# Altium integrated library Input_Connector_2pin.IntLib: 1 symbol
Pins are listed as number, name and electrical type; pins without a type are passive.

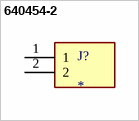
[diagram p0: symbol 640454-2]

## 640454-2
designator J?
02P MTA100 HDR ASSY SQ STR POL; MP: 640454-2; MF: TE Connectivity; Price: None; Purchase-URL: https://pricing.snapeda.com/search/part/640454-2/?ref=eda; Package: None; Check_prices: https://www.snapeda.com/parts/640454-2/TE+Connectivity+AMP+Connectors/view-part/?ref=eda; Value: *; Availability: In Stock; EU_RoHS_Compliance: Compliant; SnapEDA_Link: https://www.snapeda.com/parts/640454-2/TE+Connectivity+AMP+Connectors/view-part/?ref=snap
footprint TE_640454-2
pins: 1, 2